# Altium integrated library Analog Devices Data Converters Analog-to-Digital Converters.IntLib: 2400 symbols (part 213 of 338)
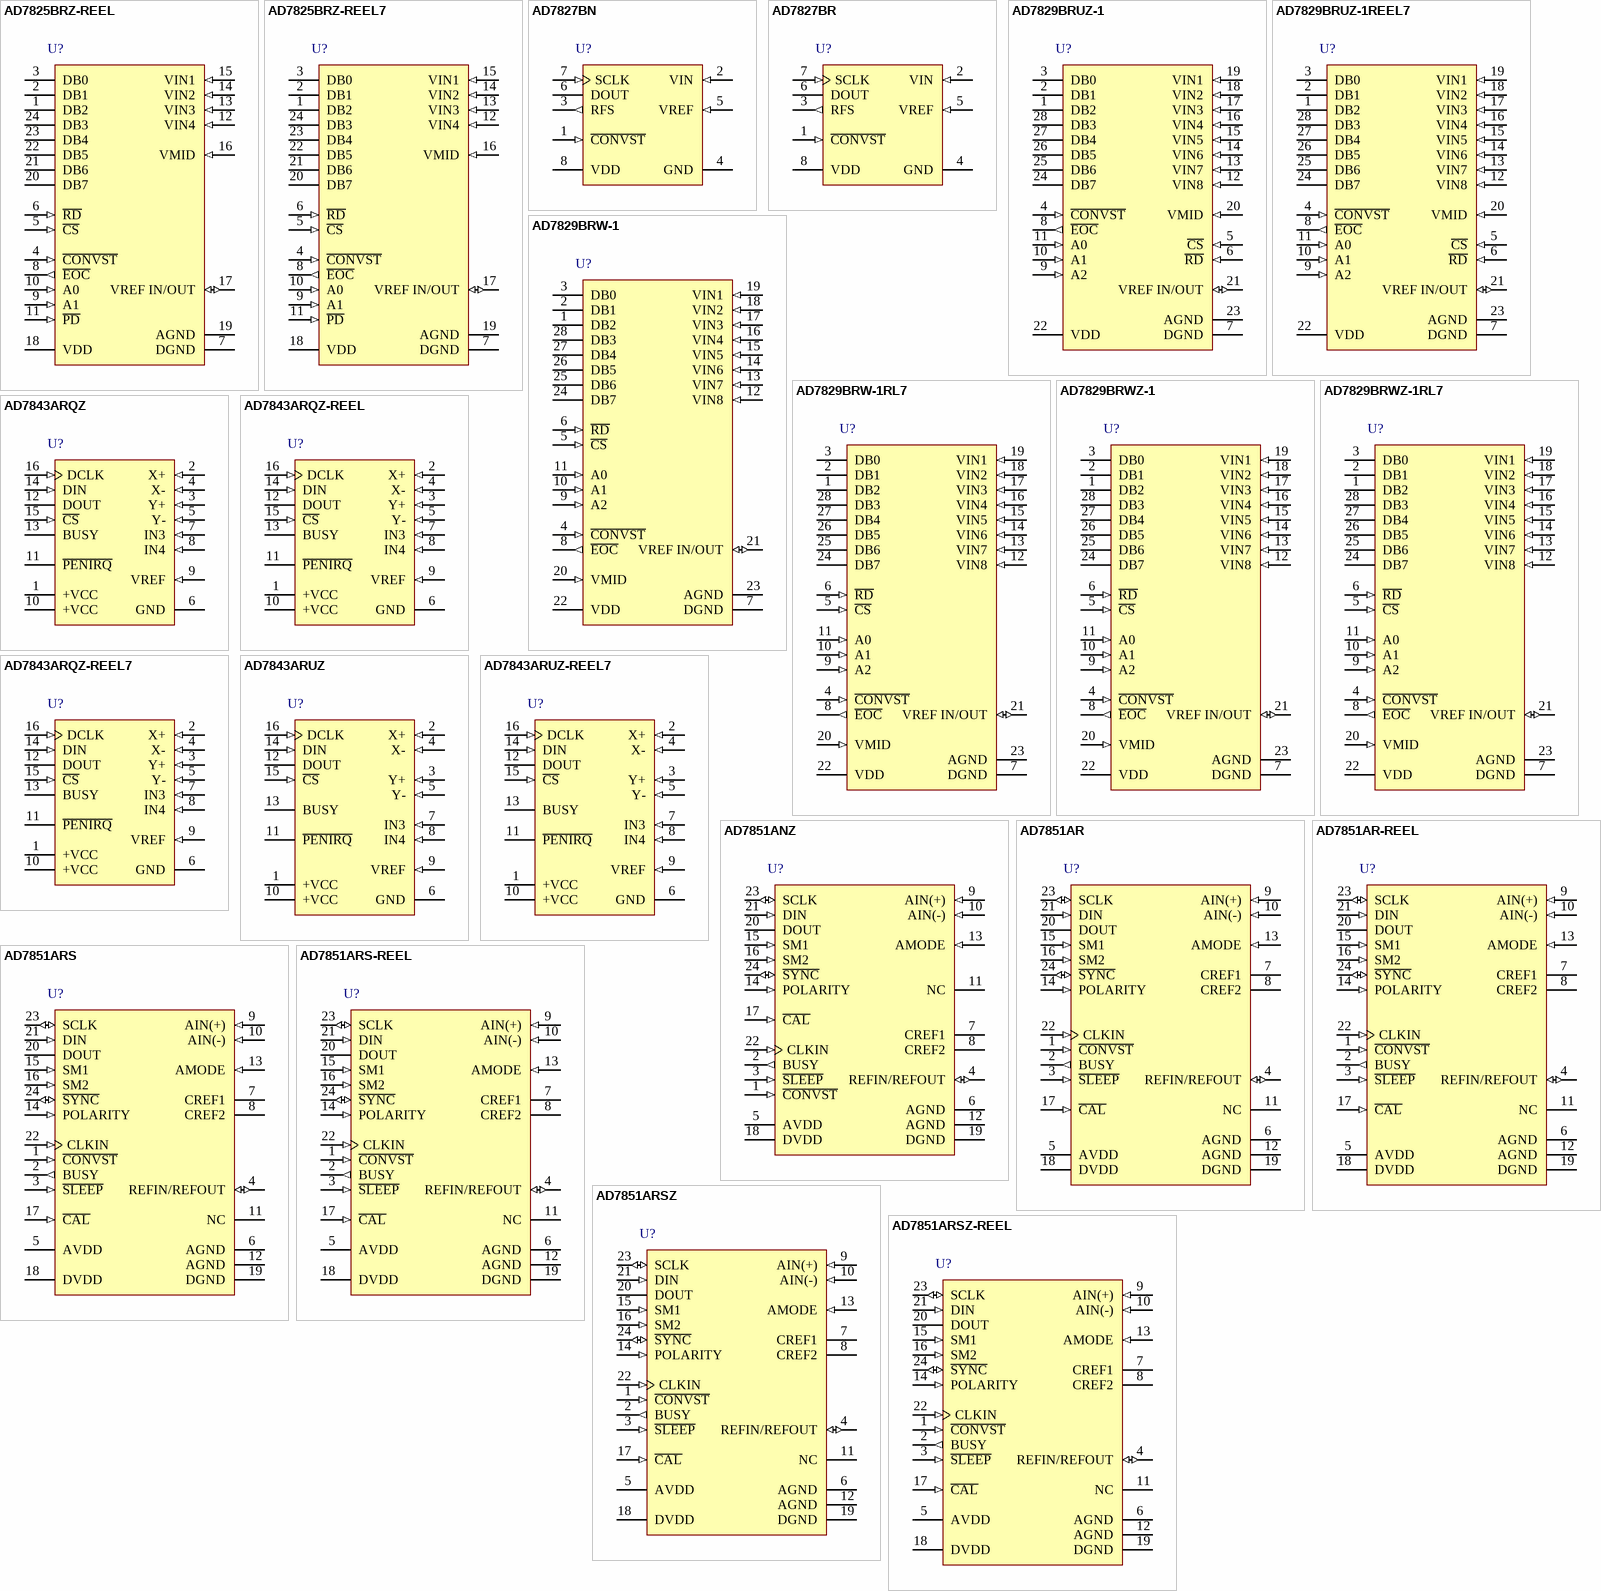
[diagram p272: symbols AD7825BRZ-REEL to AD7851ARSZ-REEL]

## AD7829BRUZ-1
designator U?
Octal 8-Bit Analog-to-Digital Converter with Parallel Interface,3 V, 2MSPS, -40 to +85 degC, RU-28, Pb-Free, Tube; Part Number: AD7829-1; Manufacturer: Analog Devices; Resolution (Bits): 8; Throughput Rate (SPS): 2M; Interface: Par; DatasheetVersion: Rev.0; PackageVersion: 2005; PackageReference: RU-28; PackageDescription: 28-Lead Thin Shrink Small Outline Package [TSSOP]; Channels: 8; RoHS: Y; Packing: Tube; Mounting Technology: Surface Mount; Code_JEDEC: MO-153-AE; ComponentLink1Description: Manufacturer URL; ComponentLink1URL: http://www.analog.com/en/index.html; ComponentLink2Description: Datasheet; ComponentLink2URL: http://www.analog.com/static/imported-files/data_sheets/AD7829-1.pdf; ComponentLink3Description: Package Specification; ComponentLink3URL: http://www.analog.com/static/imported-files/packages/249854663RU_28.pdf; ComponentLink4Description: Product URL; ComponentLink4URL: http://www.analog.com/en/analog-to-digital-converters/ad-converters/ad7829-1/products/product.html
footprint RU-28_N (TSOP, 28-Leads, Body 9.7x4.4mm, Pitch 0.65mm, IPC Medium Density)
footprint RU-28_L (TSOP, 28-Leads, Body 9.7x4.4mm, Pitch 0.65mm, IPC High Density)
footprint RU-28_M (TSOP, 28-Leads, Body 9.7x4.4mm, Pitch 0.65mm, IPC Low Density)
pins: 1 DB2 (hiz) "Data Output Lines. They are normally held in a high impedance state. Data is driven onto the data bus when both R\D\ and C\S\ go active low.", 2 DB1 (hiz) "Data Output Lines. They are normally held in a high impedance state. Data is driven onto the data bus when both R\D\ and C\S\ go active low.", 3 DB0 (hiz) "Data Output Lines. They are normally held in a high impedance state. Data is driven onto the data bus when both R\D\ and C\S\ go active low.", 4 ~{CONVST} (in) "Logic Input Signal. The convert start signal initiates an 8-bit analog-to-digital conversion on the falling edge  of this signal. The falling edge of this signal places the track/hold in hold mode. The track/hold goes into (See Datasheet)", 5 ~{CS} (in) "Logic Input Signal. The chip select signal is used to enable the parallel port of the AD7829. This is necessary if the ADC is sharing a common data bus with another device.", 6 ~{RD} (in) "Logic Input Signal. The read signal is used to take the output buffers out of their high impedance state and drive data onto the data bus. The signal is internally gated with the CS signal. Both R\D\ and C\S\ must be logic (See Datasheet)", 7 DGND (power) "Digital Ground. Ground reference for digital circuitry.", 8 ~{EOC} (out) "Logic Output. The end of conversion signal indicates when a conversion has finished. The signal can be used  to interrupt a microcontroller when a conversion has finished or latch data into a gate array (see the Parallel (See Datasheet)", 9 A2 (in) "Channel Address Inputs. The address of the next multiplexer channel must be present on these inputs when the R\D\ signal goes low.", 10 A1 (in) "Channel Address Inputs. The address of the next multiplexer channel must be present on these inputs when the R\D\ signal goes low.", 11 A0 (in) "Channel Address Inputs. The address of the next multiplexer channel must be present on these inputs when the R\D\ signal goes low.", 12 VIN8 (in) "Analog Input Channels. The AD7829-1 has eight analog input channels. The inputs have an input span of 2.5 V and 2 V, depending on the supply voltage (VDD). This span can be centered anywhere in the range AGND to VDD using (See Datasheet)", 13 VIN7 (in) "Analog Input Channels. The AD7829-1 has eight analog input channels. The inputs have an input span of 2.5 V and 2 V, depending on the supply voltage (VDD). This span can be centered anywhere in the range AGND to VDD using (See Datasheet)", 14 VIN6 (in) "Analog Input Channels. The AD7829-1 has eight analog input channels. The inputs have an input span of 2.5 V and 2 V, depending on the supply voltage (VDD). This span can be centered anywhere in the range AGND to VDD using (See Datasheet)", 15 VIN5 (in) "Analog Input Channels. The AD7829-1 has eight analog input channels. The inputs have an input span of 2.5 V and 2 V, depending on the supply voltage (VDD). This span can be centered anywhere in the range AGND to VDD using (See Datasheet)", 16 VIN4 (in) "Analog Input Channels. The AD7829-1 has eight analog input channels. The inputs have an input span of 2.5 V and 2 V, depending on the supply voltage (VDD). This span can be centered anywhere in the range AGND to VDD using (See Datasheet)", 17 VIN3 (in) "Analog Input Channels. The AD7829-1 has eight analog input channels. The inputs have an input span of 2.5 V and 2 V, depending on the supply voltage (VDD). This span can be centered anywhere in the range AGND to VDD using (See Datasheet)", 18 VIN2 (in) "Analog Input Channels. The AD7829-1 has eight analog input channels. The inputs have an input span of 2.5 V and 2 V, depending on the supply voltage (VDD). This span can be centered anywhere in the range AGND to VDD using (See Datasheet)", 19 VIN1 (in) "Analog Input Channels. The AD7829-1 has eight analog input channels. The inputs have an input span of 2.5 V and 2 V, depending on the supply voltage (VDD). This span can be centered anywhere in the range AGND to VDD using (See Datasheet)", 20 VMID (in) "The VMID pin, if connected, is used to center the analog input span anywhere in the range of AGND to VDD (see the Analog Input section).", 21 VREF IN/OUT (io) "Analog Input and Output. An external reference can be connected to the AD7829-1 at this pin. The on-chip reference is also available at this pin. When using the internal reference, this pin can be left unconnected or, in (See Datasheet)", 22 VDD (power) "Positive Supply Voltage, 3 V +/- 10% and 5 V +/- 10%.", 23 AGND (power) "Analog Ground. Ground reference for track/hold, comparators, reference circuit, and multiplexer.", 24 DB7 (hiz) "Data Output Lines. They are normally held in a high impedance state. Data is driven onto the data bus when both R\D\ and C\S\ go active low.", 25 DB6 (hiz) "Data Output Lines. They are normally held in a high impedance state. Data is driven onto the data bus when both R\D\ and C\S\ go active low.", 26 DB5 (hiz) "Data Output Lines. They are normally held in a high impedance state. Data is driven onto the data bus when both R\D\ and C\S\ go active low.", 27 DB4 (hiz) "Data Output Lines. They are normally held in a high impedance state. Data is driven onto the data bus when both R\D\ and C\S\ go active low.", 28 DB3 (hiz) "Data Output Lines. They are normally held in a high impedance state. Data is driven onto the data bus when both R\D\ and C\S\ go active low."

## AD7829BRUZ-1REEL7
designator U?
Octal 8-Bit Analog-to-Digital Converter with Parallel Interface,3 V, 2MSPS, -40 to +85 degC, RU-28, Pb-Free, Reel; Part Number: AD7829-1; Manufacturer: Analog Devices; Resolution (Bits): 8; Throughput Rate (SPS): 2M; Interface: Par; DatasheetVersion: Rev.0; PackageVersion: 2005; PackageReference: RU-28; PackageDescription: 28-Lead Thin Shrink Small Outline Package [TSSOP]; Channels: 8; RoHS: Y; Packing: Reel; Mounting Technology: Surface Mount; Code_JEDEC: MO-153-AE; ComponentLink1Description: Manufacturer URL; ComponentLink1URL: http://www.analog.com/en/index.html; ComponentLink2Description: Datasheet; ComponentLink2URL: http://www.analog.com/static/imported-files/data_sheets/AD7829-1.pdf; ComponentLink3Description: Package Specification; ComponentLink3URL: http://www.analog.com/static/imported-files/packages/249854663RU_28.pdf; ComponentLink4Description: Product URL; ComponentLink4URL: http://www.analog.com/en/analog-to-digital-converters/ad-converters/ad7829-1/products/product.html
footprint RU-28_N (TSOP, 28-Leads, Body 9.7x4.4mm, Pitch 0.65mm, IPC Medium Density)
footprint RU-28_L (TSOP, 28-Leads, Body 9.7x4.4mm, Pitch 0.65mm, IPC High Density)
footprint RU-28_M (TSOP, 28-Leads, Body 9.7x4.4mm, Pitch 0.65mm, IPC Low Density)
pins: 1 DB2 (hiz) "Data Output Lines. They are normally held in a high impedance state. Data is driven onto the data bus when both R\D\ and C\S\ go active low.", 2 DB1 (hiz) "Data Output Lines. They are normally held in a high impedance state. Data is driven onto the data bus when both R\D\ and C\S\ go active low.", 3 DB0 (hiz) "Data Output Lines. They are normally held in a high impedance state. Data is driven onto the data bus when both R\D\ and C\S\ go active low.", 4 ~{CONVST} (in) "Logic Input Signal. The convert start signal initiates an 8-bit analog-to-digital conversion on the falling edge  of this signal. The falling edge of this signal places the track/hold in hold mode. The track/hold goes into (See Datasheet)", 5 ~{CS} (in) "Logic Input Signal. The chip select signal is used to enable the parallel port of the AD7829. This is necessary if the ADC is sharing a common data bus with another device.", 6 ~{RD} (in) "Logic Input Signal. The read signal is used to take the output buffers out of their high impedance state and drive data onto the data bus. The signal is internally gated with the CS signal. Both R\D\ and C\S\ must be logic (See Datasheet)", 7 DGND (power) "Digital Ground. Ground reference for digital circuitry.", 8 ~{EOC} (out) "Logic Output. The end of conversion signal indicates when a conversion has finished. The signal can be used  to interrupt a microcontroller when a conversion has finished or latch data into a gate array (see the Parallel (See Datasheet)", 9 A2 (in) "Channel Address Inputs. The address of the next multiplexer channel must be present on these inputs when the R\D\ signal goes low.", 10 A1 (in) "Channel Address Inputs. The address of the next multiplexer channel must be present on these inputs when the R\D\ signal goes low.", 11 A0 (in) "Channel Address Inputs. The address of the next multiplexer channel must be present on these inputs when the R\D\ signal goes low.", 12 VIN8 (in) "Analog Input Channels. The AD7829-1 has eight analog input channels. The inputs have an input span of 2.5 V and 2 V, depending on the supply voltage (VDD). This span can be centered anywhere in the range AGND to VDD using (See Datasheet)", 13 VIN7 (in) "Analog Input Channels. The AD7829-1 has eight analog input channels. The inputs have an input span of 2.5 V and 2 V, depending on the supply voltage (VDD). This span can be centered anywhere in the range AGND to VDD using (See Datasheet)", 14 VIN6 (in) "Analog Input Channels. The AD7829-1 has eight analog input channels. The inputs have an input span of 2.5 V and 2 V, depending on the supply voltage (VDD). This span can be centered anywhere in the range AGND to VDD using (See Datasheet)", 15 VIN5 (in) "Analog Input Channels. The AD7829-1 has eight analog input channels. The inputs have an input span of 2.5 V and 2 V, depending on the supply voltage (VDD). This span can be centered anywhere in the range AGND to VDD using (See Datasheet)", 16 VIN4 (in) "Analog Input Channels. The AD7829-1 has eight analog input channels. The inputs have an input span of 2.5 V and 2 V, depending on the supply voltage (VDD). This span can be centered anywhere in the range AGND to VDD using (See Datasheet)", 17 VIN3 (in) "Analog Input Channels. The AD7829-1 has eight analog input channels. The inputs have an input span of 2.5 V and 2 V, depending on the supply voltage (VDD). This span can be centered anywhere in the range AGND to VDD using (See Datasheet)", 18 VIN2 (in) "Analog Input Channels. The AD7829-1 has eight analog input channels. The inputs have an input span of 2.5 V and 2 V, depending on the supply voltage (VDD). This span can be centered anywhere in the range AGND to VDD using (See Datasheet)", 19 VIN1 (in) "Analog Input Channels. The AD7829-1 has eight analog input channels. The inputs have an input span of 2.5 V and 2 V, depending on the supply voltage (VDD). This span can be centered anywhere in the range AGND to VDD using (See Datasheet)", 20 VMID (in) "The VMID pin, if connected, is used to center the analog input span anywhere in the range of AGND to VDD (see the Analog Input section).", 21 VREF IN/OUT (io) "Analog Input and Output. An external reference can be connected to the AD7829-1 at this pin. The on-chip reference is also available at this pin. When using the internal reference, this pin can be left unconnected or, in (See Datasheet)", 22 VDD (power) "Positive Supply Voltage, 3 V +/- 10% and 5 V +/- 10%.", 23 AGND (power) "Analog Ground. Ground reference for track/hold, comparators, reference circuit, and multiplexer.", 24 DB7 (hiz) "Data Output Lines. They are normally held in a high impedance state. Data is driven onto the data bus when both R\D\ and C\S\ go active low.", 25 DB6 (hiz) "Data Output Lines. They are normally held in a high impedance state. Data is driven onto the data bus when both R\D\ and C\S\ go active low.", 26 DB5 (hiz) "Data Output Lines. They are normally held in a high impedance state. Data is driven onto the data bus when both R\D\ and C\S\ go active low.", 27 DB4 (hiz) "Data Output Lines. They are normally held in a high impedance state. Data is driven onto the data bus when both R\D\ and C\S\ go active low.", 28 DB3 (hiz) "Data Output Lines. They are normally held in a high impedance state. Data is driven onto the data bus when both R\D\ and C\S\ go active low."

## AD7829BRW-1
designator U?
Octal 8-Bit Analog-to-Digital Converter with Parallel Interface,3 V, 2MSPS, -40 to +85 degC, RW-28, Tube; Part Number: AD7829-1; Manufacturer: Analog Devices; Resolution (Bits): 8; Throughput Rate (SPS): 2M; Interface: Par; DatasheetVersion: Rev.0; PackageVersion: 060706-A; PackageReference: RW-28; PackageDescription: 28-Lead Standard Small Outline Package [SOIC_W]; Channels: 8; RoHS: N; Packing: Tube; Mounting Technology: Surface Mount; Code_JEDEC: MS-013-AE; ComponentLink1Description: Manufacturer URL; ComponentLink1URL: http://www.analog.com/en/index.html; ComponentLink2Description: Datasheet; ComponentLink2URL: http://www.analog.com/static/imported-files/data_sheets/AD7829-1.pdf; ComponentLink3Description: Package Specification; ComponentLink3URL: http://www.analog.com/static/imported-files/packages/35833120341221RW_28.pdf; ComponentLink4Description: Product URL; ComponentLink4URL: http://www.analog.com/en/analog-to-digital-converters/ad-converters/ad7829-1/products/product.html
footprint RW-28_N (SOIC, 28-Leads, Body 17.9x7.5mm, Pitch 1.27mm, IPC Medium Density)
footprint RW-28_L (SOIC, 28-Leads, Body 17.9x7.5mm, Pitch 1.27mm, IPC High Density)
footprint RW-28_M (SOIC, 28-Leads, Body 17.9x7.5mm, Pitch 1.27mm, IPC Low Density)
pins: 1 DB2 (hiz) "Data Output Lines. They are normally held in a high impedance state. Data is driven onto the data bus when both R\D\ and C\S\ go active low.", 2 DB1 (hiz) "Data Output Lines. They are normally held in a high impedance state. Data is driven onto the data bus when both R\D\ and C\S\ go active low.", 3 DB0 (hiz) "Data Output Lines. They are normally held in a high impedance state. Data is driven onto the data bus when both R\D\ and C\S\ go active low.", 4 ~{CONVST} (in) "Logic Input Signal. The convert start signal initiates an 8-bit analog-to-digital conversion on the falling edge of this signal. The falling edge of this signal places the track/hold in hold mode. The track/hold goes into (See Datasheet)", 5 ~{CS} (in) "Logic Input Signal. The chip select signal is used to enable the parallel port of the AD7829. This is necessary if the ADC is sharing a common data bus with another device.", 6 ~{RD} (in) "Logic Input Signal. The read signal is used to take the output buffers out of their high impedance state and drive data onto the data bus. The signal is internally gated with the CS signal. Both R\D\ and C\S\ must be logic (See Datasheet)", 7 DGND (power) "Digital Ground. Ground reference for digital circuitry.", 8 ~{EOC} (out) "Logic Output. The end of conversion signal indicates when a conversion has finished. The signal can be used to interrupt a microcontroller when a conversion has finished or latch data into a gate array (see the Parallel (See Datasheet)", 9 A2 (in) "Channel Address Inputs. The address of the next multiplexer channel must be present on these inputs when the R\D\ signal goes low.", 10 A1 (in) "Channel Address Inputs. The address of the next multiplexer channel must be present on these inputs when the R\D\ signal goes low.", 11 A0 (in) "Channel Address Inputs. The address of the next multiplexer channel must be present on these inputs when the R\D\ signal goes low.", 12 VIN8 (in) "Analog Input Channels. The AD7829-1 has eight analog input channels. The inputs have an input span of 2.5 V and 2 V, depending on the supply voltage (VDD). This span can be centered anywhere in the range AGND to VDD using (See Datasheet)", 13 VIN7 (in) "Analog Input Channels. The AD7829-1 has eight analog input channels. The inputs have an input span of 2.5 V and 2 V, depending on the supply voltage (VDD). This span can be centered anywhere in the range AGND to VDD using (See Datasheet)", 14 VIN6 (in) "Analog Input Channels. The AD7829-1 has eight analog input channels. The inputs have an input span of 2.5 V and 2 V, depending on the supply voltage (VDD). This span can be centered anywhere in the range AGND to VDD using (See Datasheet)", 15 VIN5 (in) "Analog Input Channels. The AD7829-1 has eight analog input channels. The inputs have an input span of 2.5 V and 2 V, depending on the supply voltage (VDD). This span can be centered anywhere in the range AGND to VDD using (See Datasheet)", 16 VIN4 (in) "Analog Input Channels. The AD7829-1 has eight analog input channels. The inputs have an input span of 2.5 V and 2 V, depending on the supply voltage (VDD). This span can be centered anywhere in the range AGND to VDD using (See Datasheet)", 17 VIN3 (in) "Analog Input Channels. The AD7829-1 has eight analog input channels. The inputs have an input span of 2.5 V and 2 V, depending on the supply voltage (VDD). This span can be centered anywhere in the range AGND to VDD using (See Datasheet)", 18 VIN2 (in) "Analog Input Channels. The AD7829-1 has eight analog input channels. The inputs have an input span of 2.5 V and 2 V, depending on the supply voltage (VDD). This span can be centered anywhere in the range AGND to VDD using (See Datasheet)", 19 VIN1 (in) "Analog Input Channels. The AD7829-1 has eight analog input channels. The inputs have an input span of 2.5 V and 2 V, depending on the supply voltage (VDD). This span can be centered anywhere in the range AGND to VDD using (See Datasheet)", 20 VMID (in) "The VMID pin, if connected, is used to center the analog input span anywhere in the range of AGND to VDD (see the Analog Input section).", 21 VREF IN/OUT (io) "Analog Input and Output. An external reference can be connected to the AD7829-1 at this pin. The on-chip reference is also available at this pin. When using the internal reference, this pin can be left unconnected or, in (See Datasheet)", 22 VDD (power) "Positive Supply Voltage, 3 V +/- 10% and 5 V +/- 10%.", 23 AGND (power) "Analog Ground. Ground reference for track/hold, comparators, reference circuit, and multiplexer.", 24 DB7 (hiz) "Data Output Lines. They are normally held in a high impedance state. Data is driven onto the data bus when both R\D\ and C\S\ go active low.", 25 DB6 (hiz) "Data Output Lines. They are normally held in a high impedance state. Data is driven onto the data bus when both R\D\ and C\S\ go active low.", 26 DB5 (hiz) "Data Output Lines. They are normally held in a high impedance state. Data is driven onto the data bus when both R\D\ and C\S\ go active low.", 27 DB4 (hiz) "Data Output Lines. They are normally held in a high impedance state. Data is driven onto the data bus when both R\D\ and C\S\ go active low.", 28 DB3 (hiz) "Data Output Lines. They are normally held in a high impedance state. Data is driven onto the data bus when both R\D\ and C\S\ go active low."

## AD7829BRW-1RL7
designator U?
Octal 8-Bit Analog-to-Digital Converter with Parallel Interface,3 V, 2MSPS, -40 to +85 degC, RW-28,Reel; Part Number: AD7829-1; Manufacturer: Analog Devices; Resolution (Bits): 8; Throughput Rate (SPS): 2M; Interface: Par; DatasheetVersion: Rev.0; PackageVersion: 060706-A; PackageReference: RW-28; PackageDescription: 28-Lead Standard Small Outline Package [SOIC_W]; Channels: 8; RoHS: N; Packing: Reel; Mounting Technology: Surface Mount; Code_JEDEC: MS-013-AE; ComponentLink1Description: Manufacturer URL; ComponentLink1URL: http://www.analog.com/en/index.html; ComponentLink2Description: Datasheet; ComponentLink2URL: http://www.analog.com/static/imported-files/data_sheets/AD7829-1.pdf; ComponentLink3Description: Package Specification; ComponentLink3URL: http://www.analog.com/static/imported-files/packages/35833120341221RW_28.pdf; ComponentLink4Description: Product URL; ComponentLink4URL: http://www.analog.com/en/analog-to-digital-converters/ad-converters/ad7829-1/products/product.html
footprint RW-28_N (SOIC, 28-Leads, Body 17.9x7.5mm, Pitch 1.27mm, IPC Medium Density)
footprint RW-28_L (SOIC, 28-Leads, Body 17.9x7.5mm, Pitch 1.27mm, IPC High Density)
footprint RW-28_M (SOIC, 28-Leads, Body 17.9x7.5mm, Pitch 1.27mm, IPC Low Density)
pins: 1 DB2 (hiz) "Data Output Lines. They are normally held in a high impedance state. Data is driven onto the data bus when both R\D\ and C\S\ go active low.", 2 DB1 (hiz) "Data Output Lines. They are normally held in a high impedance state. Data is driven onto the data bus when both R\D\ and C\S\ go active low.", 3 DB0 (hiz) "Data Output Lines. They are normally held in a high impedance state. Data is driven onto the data bus when both R\D\ and C\S\ go active low.", 4 ~{CONVST} (in) "Logic Input Signal. The convert start signal initiates an 8-bit analog-to-digital conversion on the falling edge of this signal. The falling edge of this signal places the track/hold in hold mode. The track/hold goes into (See Datasheet)", 5 ~{CS} (in) "Logic Input Signal. The chip select signal is used to enable the parallel port of the AD7829. This is necessary if the ADC is sharing a common data bus with another device.", 6 ~{RD} (in) "Logic Input Signal. The read signal is used to take the output buffers out of their high impedance state and drive data onto the data bus. The signal is internally gated with the CS signal. Both R\D\ and C\S\ must be logic (See Datasheet)", 7 DGND (power) "Digital Ground. Ground reference for digital circuitry.", 8 ~{EOC} (out) "Logic Output. The end of conversion signal indicates when a conversion has finished. The signal can be used to interrupt a microcontroller when a conversion has finished or latch data into a gate array (see the Parallel (See Datasheet)", 9 A2 (in) "Channel Address Inputs. The address of the next multiplexer channel must be present on these inputs when the R\D\ signal goes low.", 10 A1 (in) "Channel Address Inputs. The address of the next multiplexer channel must be present on these inputs when the R\D\ signal goes low.", 11 A0 (in) "Channel Address Inputs. The address of the next multiplexer channel must be present on these inputs when the R\D\ signal goes low.", 12 VIN8 (in) "Analog Input Channels. The AD7829-1 has eight analog input channels. The inputs have an input span of 2.5 V and 2 V, depending on the supply voltage (VDD). This span can be centered anywhere in the range AGND to VDD using (See Datasheet)", 13 VIN7 (in) "Analog Input Channels. The AD7829-1 has eight analog input channels. The inputs have an input span of 2.5 V and 2 V, depending on the supply voltage (VDD). This span can be centered anywhere in the range AGND to VDD using (See Datasheet)", 14 VIN6 (in) "Analog Input Channels. The AD7829-1 has eight analog input channels. The inputs have an input span of 2.5 V and 2 V, depending on the supply voltage (VDD). This span can be centered anywhere in the range AGND to VDD using (See Datasheet)", 15 VIN5 (in) "Analog Input Channels. The AD7829-1 has eight analog input channels. The inputs have an input span of 2.5 V and 2 V, depending on the supply voltage (VDD). This span can be centered anywhere in the range AGND to VDD using (See Datasheet)", 16 VIN4 (in) "Analog Input Channels. The AD7829-1 has eight analog input channels. The inputs have an input span of 2.5 V and 2 V, depending on the supply voltage (VDD). This span can be centered anywhere in the range AGND to VDD using (See Datasheet)", 17 VIN3 (in) "Analog Input Channels. The AD7829-1 has eight analog input channels. The inputs have an input span of 2.5 V and 2 V, depending on the supply voltage (VDD). This span can be centered anywhere in the range AGND to VDD using (See Datasheet)", 18 VIN2 (in) "Analog Input Channels. The AD7829-1 has eight analog input channels. The inputs have an input span of 2.5 V and 2 V, depending on the supply voltage (VDD). This span can be centered anywhere in the range AGND to VDD using (See Datasheet)", 19 VIN1 (in) "Analog Input Channels. The AD7829-1 has eight analog input channels. The inputs have an input span of 2.5 V and 2 V, depending on the supply voltage (VDD). This span can be centered anywhere in the range AGND to VDD using (See Datasheet)", 20 VMID (in) "The VMID pin, if connected, is used to center the analog input span anywhere in the range of AGND to VDD (see the Analog Input section).", 21 VREF IN/OUT (io) "Analog Input and Output. An external reference can be connected to the AD7829-1 at this pin. The on-chip reference is also available at this pin. When using the internal reference, this pin can be left unconnected or, in (See Datasheet)", 22 VDD (power) "Positive Supply Voltage, 3 V +/- 10% and 5 V +/- 10%.", 23 AGND (power) "Analog Ground. Ground reference for track/hold, comparators, reference circuit, and multiplexer.", 24 DB7 (hiz) "Data Output Lines. They are normally held in a high impedance state. Data is driven onto the data bus when both R\D\ and C\S\ go active low.", 25 DB6 (hiz) "Data Output Lines. They are normally held in a high impedance state. Data is driven onto the data bus when both R\D\ and C\S\ go active low.", 26 DB5 (hiz) "Data Output Lines. They are normally held in a high impedance state. Data is driven onto the data bus when both R\D\ and C\S\ go active low.", 27 DB4 (hiz) "Data Output Lines. They are normally held in a high impedance state. Data is driven onto the data bus when both R\D\ and C\S\ go active low.", 28 DB3 (hiz) "Data Output Lines. They are normally held in a high impedance state. Data is driven onto the data bus when both R\D\ and C\S\ go active low."

## AD7829BRWZ-1
designator U?
Octal 8-Bit Analog-to-Digital Converter with Parallel Interface,3 V, 2MSPS, -40 to +85 degC, RW-28, Pb-Free, Tube; Part Number: AD7829-1; Manufacturer: Analog Devices; Resolution (Bits): 8; Throughput Rate (SPS): 2M; Interface: Par; DatasheetVersion: Rev.0; PackageVersion: 060706-A; PackageReference: RW-28; PackageDescription: 28-Lead Standard Small Outline Package [SOIC_W]; Channels: 8; RoHS: Y; Packing: Tube; Mounting Technology: Surface Mount; Code_JEDEC: MS-013-AE; ComponentLink1Description: Manufacturer URL; ComponentLink1URL: http://www.analog.com/en/index.html; ComponentLink2Description: Datasheet; ComponentLink2URL: http://www.analog.com/static/imported-files/data_sheets/AD7829-1.pdf; ComponentLink3Description: Package Specification; ComponentLink3URL: http://www.analog.com/static/imported-files/packages/35833120341221RW_28.pdf; ComponentLink4Description: Product URL; ComponentLink4URL: http://www.analog.com/en/analog-to-digital-converters/ad-converters/ad7829-1/products/product.html
footprint RW-28_N (SOIC, 28-Leads, Body 17.9x7.5mm, Pitch 1.27mm, IPC Medium Density)
footprint RW-28_L (SOIC, 28-Leads, Body 17.9x7.5mm, Pitch 1.27mm, IPC High Density)
footprint RW-28_M (SOIC, 28-Leads, Body 17.9x7.5mm, Pitch 1.27mm, IPC Low Density)
pins: 1 DB2 (hiz) "Data Output Lines. They are normally held in a high impedance state. Data is driven onto the data bus when both R\D\ and C\S\ go active low.", 2 DB1 (hiz) "Data Output Lines. They are normally held in a high impedance state. Data is driven onto the data bus when both R\D\ and C\S\ go active low.", 3 DB0 (hiz) "Data Output Lines. They are normally held in a high impedance state. Data is driven onto the data bus when both R\D\ and C\S\ go active low.", 4 ~{CONVST} (in) "Logic Input Signal. The convert start signal initiates an 8-bit analog-to-digital conversion on the falling edge of this signal. The falling edge of this signal places the track/hold in hold mode. The track/hold goes into (See Datasheet)", 5 ~{CS} (in) "Logic Input Signal. The chip select signal is used to enable the parallel port of the AD7829. This is necessary if the ADC is sharing a common data bus with another device.", 6 ~{RD} (in) "Logic Input Signal. The read signal is used to take the output buffers out of their high impedance state and drive data onto the data bus. The signal is internally gated with the CS signal. Both R\D\ and C\S\ must be logic (See Datasheet)", 7 DGND (power) "Digital Ground. Ground reference for digital circuitry.", 8 ~{EOC} (out) "Logic Output. The end of conversion signal indicates when a conversion has finished. The signal can be used to interrupt a microcontroller when a conversion has finished or latch data into a gate array (see the Parallel (See Datasheet)", 9 A2 (in) "Channel Address Inputs. The address of the next multiplexer channel must be present on these inputs when the R\D\ signal goes low.", 10 A1 (in) "Channel Address Inputs. The address of the next multiplexer channel must be present on these inputs when the R\D\ signal goes low.", 11 A0 (in) "Channel Address Inputs. The address of the next multiplexer channel must be present on these inputs when the R\D\ signal goes low.", 12 VIN8 (in) "Analog Input Channels. The AD7829-1 has eight analog input channels. The inputs have an input span of 2.5 V and 2 V, depending on the supply voltage (VDD). This span can be centered anywhere in the range AGND to VDD using (See Datasheet)", 13 VIN7 (in) "Analog Input Channels. The AD7829-1 has eight analog input channels. The inputs have an input span of 2.5 V and 2 V, depending on the supply voltage (VDD). This span can be centered anywhere in the range AGND to VDD using (See Datasheet)", 14 VIN6 (in) "Analog Input Channels. The AD7829-1 has eight analog input channels. The inputs have an input span of 2.5 V and 2 V, depending on the supply voltage (VDD). This span can be centered anywhere in the range AGND to VDD using (See Datasheet)", 15 VIN5 (in) "Analog Input Channels. The AD7829-1 has eight analog input channels. The inputs have an input span of 2.5 V and 2 V, depending on the supply voltage (VDD). This span can be centered anywhere in the range AGND to VDD using (See Datasheet)", 16 VIN4 (in) "Analog Input Channels. The AD7829-1 has eight analog input channels. The inputs have an input span of 2.5 V and 2 V, depending on the supply voltage (VDD). This span can be centered anywhere in the range AGND to VDD using (See Datasheet)", 17 VIN3 (in) "Analog Input Channels. The AD7829-1 has eight analog input channels. The inputs have an input span of 2.5 V and 2 V, depending on the supply voltage (VDD). This span can be centered anywhere in the range AGND to VDD using (See Datasheet)", 18 VIN2 (in) "Analog Input Channels. The AD7829-1 has eight analog input channels. The inputs have an input span of 2.5 V and 2 V, depending on the supply voltage (VDD). This span can be centered anywhere in the range AGND to VDD using (See Datasheet)", 19 VIN1 (in) "Analog Input Channels. The AD7829-1 has eight analog input channels. The inputs have an input span of 2.5 V and 2 V, depending on the supply voltage (VDD). This span can be centered anywhere in the range AGND to VDD using (See Datasheet)", 20 VMID (in) "The VMID pin, if connected, is used to center the analog input span anywhere in the range of AGND to VDD (see the Analog Input section).", 21 VREF IN/OUT (io) "Analog Input and Output. An external reference can be connected to the AD7829-1 at this pin. The on-chip reference is also available at this pin. When using the internal reference, this pin can be left unconnected or, in (See Datasheet)", 22 VDD (power) "Positive Supply Voltage, 3 V +/- 10% and 5 V +/- 10%.", 23 AGND (power) "Analog Ground. Ground reference for track/hold, comparators, reference circuit, and multiplexer.", 24 DB7 (hiz) "Data Output Lines. They are normally held in a high impedance state. Data is driven onto the data bus when both R\D\ and C\S\ go active low.", 25 DB6 (hiz) "Data Output Lines. They are normally held in a high impedance state. Data is driven onto the data bus when both R\D\ and C\S\ go active low.", 26 DB5 (hiz) "Data Output Lines. They are normally held in a high impedance state. Data is driven onto the data bus when both R\D\ and C\S\ go active low.", 27 DB4 (hiz) "Data Output Lines. They are normally held in a high impedance state. Data is driven onto the data bus when both R\D\ and C\S\ go active low.", 28 DB3 (hiz) "Data Output Lines. They are normally held in a high impedance state. Data is driven onto the data bus when both R\D\ and C\S\ go active low."

## AD7829BRWZ-1RL7
designator U?
Octal 8-Bit Analog-to-Digital Converter with Parallel Interface,3 V, 2MSPS, -40 to +85 degC, RW-28, Pb-Free, Reel; Part Number: AD7829-1; Manufacturer: Analog Devices; Resolution (Bits): 8; Throughput Rate (SPS): 2M; Interface: Par; DatasheetVersion: Rev.0; PackageVersion: 060706-A; PackageReference: RW-28; PackageDescription: 28-Lead Standard Small Outline Package [SOIC_W]; Channels: 8; RoHS: Y; Packing: Reel; Mounting Technology: Surface Mount; Code_JEDEC: MS-013-AE; ComponentLink1Description: Manufacturer URL; ComponentLink1URL: http://www.analog.com/en/index.html; ComponentLink2Description: Datasheet; ComponentLink2URL: http://www.analog.com/static/imported-files/data_sheets/AD7829-1.pdf; ComponentLink3Description: Package Specification; ComponentLink3URL: http://www.analog.com/static/imported-files/packages/35833120341221RW_28.pdf; ComponentLink4Description: Product URL; ComponentLink4URL: http://www.analog.com/en/analog-to-digital-converters/ad-converters/ad7829-1/products/product.html
footprint RW-28_N (SOIC, 28-Leads, Body 17.9x7.5mm, Pitch 1.27mm, IPC Medium Density)
footprint RW-28_L (SOIC, 28-Leads, Body 17.9x7.5mm, Pitch 1.27mm, IPC High Density)
footprint RW-28_M (SOIC, 28-Leads, Body 17.9x7.5mm, Pitch 1.27mm, IPC Low Density)
pins: 1 DB2 (hiz) "Data Output Lines. They are normally held in a high impedance state. Data is driven onto the data bus when both R\D\ and C\S\ go active low.", 2 DB1 (hiz) "Data Output Lines. They are normally held in a high impedance state. Data is driven onto the data bus when both R\D\ and C\S\ go active low.", 3 DB0 (hiz) "Data Output Lines. They are normally held in a high impedance state. Data is driven onto the data bus when both R\D\ and C\S\ go active low.", 4 ~{CONVST} (in) "Logic Input Signal. The convert start signal initiates an 8-bit analog-to-digital conversion on the falling edge of this signal. The falling edge of this signal places the track/hold in hold mode. The track/hold goes into (See Datasheet)", 5 ~{CS} (in) "Logic Input Signal. The chip select signal is used to enable the parallel port of the AD7829. This is necessary if the ADC is sharing a common data bus with another device.", 6 ~{RD} (in) "Logic Input Signal. The read signal is used to take the output buffers out of their high impedance state and drive data onto the data bus. The signal is internally gated with the CS signal. Both R\D\ and C\S\ must be logic (See Datasheet)", 7 DGND (power) "Digital Ground. Ground reference for digital circuitry.", 8 ~{EOC} (out) "Logic Output. The end of conversion signal indicates when a conversion has finished. The signal can be used to interrupt a microcontroller when a conversion has finished or latch data into a gate array (see the Parallel (See Datasheet)", 9 A2 (in) "Channel Address Inputs. The address of the next multiplexer channel must be present on these inputs when the R\D\ signal goes low.", 10 A1 (in) "Channel Address Inputs. The address of the next multiplexer channel must be present on these inputs when the R\D\ signal goes low.", 11 A0 (in) "Channel Address Inputs. The address of the next multiplexer channel must be present on these inputs when the R\D\ signal goes low.", 12 VIN8 (in) "Analog Input Channels. The AD7829-1 has eight analog input channels. The inputs have an input span of 2.5 V and 2 V, depending on the supply voltage (VDD). This span can be centered anywhere in the range AGND to VDD using (See Datasheet)", 13 VIN7 (in) "Analog Input Channels. The AD7829-1 has eight analog input channels. The inputs have an input span of 2.5 V and 2 V, depending on the supply voltage (VDD). This span can be centered anywhere in the range AGND to VDD using (See Datasheet)", 14 VIN6 (in) "Analog Input Channels. The AD7829-1 has eight analog input channels. The inputs have an input span of 2.5 V and 2 V, depending on the supply voltage (VDD). This span can be centered anywhere in the range AGND to VDD using (See Datasheet)", 15 VIN5 (in) "Analog Input Channels. The AD7829-1 has eight analog input channels. The inputs have an input span of 2.5 V and 2 V, depending on the supply voltage (VDD). This span can be centered anywhere in the range AGND to VDD using (See Datasheet)", 16 VIN4 (in) "Analog Input Channels. The AD7829-1 has eight analog input channels. The inputs have an input span of 2.5 V and 2 V, depending on the supply voltage (VDD). This span can be centered anywhere in the range AGND to VDD using (See Datasheet)", 17 VIN3 (in) "Analog Input Channels. The AD7829-1 has eight analog input channels. The inputs have an input span of 2.5 V and 2 V, depending on the supply voltage (VDD). This span can be centered anywhere in the range AGND to VDD using (See Datasheet)", 18 VIN2 (in) "Analog Input Channels. The AD7829-1 has eight analog input channels. The inputs have an input span of 2.5 V and 2 V, depending on the supply voltage (VDD). This span can be centered anywhere in the range AGND to VDD using (See Datasheet)", 19 VIN1 (in) "Analog Input Channels. The AD7829-1 has eight analog input channels. The inputs have an input span of 2.5 V and 2 V, depending on the supply voltage (VDD). This span can be centered anywhere in the range AGND to VDD using (See Datasheet)", 20 VMID (in) "The VMID pin, if connected, is used to center the analog input span anywhere in the range of AGND to VDD (see the Analog Input section).", 21 VREF IN/OUT (io) "Analog Input and Output. An external reference can be connected to the AD7829-1 at this pin. The on-chip reference is also available at this pin. When using the internal reference, this pin can be left unconnected or, in (See Datasheet)", 22 VDD (power) "Positive Supply Voltage, 3 V +/- 10% and 5 V +/- 10%.", 23 AGND (power) "Analog Ground. Ground reference for track/hold, comparators, reference circuit, and multiplexer.", 24 DB7 (hiz) "Data Output Lines. They are normally held in a high impedance state. Data is driven onto the data bus when both R\D\ and C\S\ go active low.", 25 DB6 (hiz) "Data Output Lines. They are normally held in a high impedance state. Data is driven onto the data bus when both R\D\ and C\S\ go active low.", 26 DB5 (hiz) "Data Output Lines. They are normally held in a high impedance state. Data is driven onto the data bus when both R\D\ and C\S\ go active low.", 27 DB4 (hiz) "Data Output Lines. They are normally held in a high impedance state. Data is driven onto the data bus when both R\D\ and C\S\ go active low.", 28 DB3 (hiz) "Data Output Lines. They are normally held in a high impedance state. Data is driven onto the data bus when both R\D\ and C\S\ go active low."

## AD7843ARQZ
designator U?
4 Channel 12-Bit Touch Screen Digitizer with Serial Interface, 125KSPS, 0 to +70 degC, RQ-16, Pb-Free, Tube; Part Number: AD7843; Manufacturer: Analog Devices; Resolution (Bits): 12; Channels: 4; Throughput Rate (SPS): 125K; Interface: Ser; DatasheetVersion: Rev.B; PackageVersion: Aug-2005; PackageReference: RQ-16; PackageDescription: 16-Lead Shrink Small Outline Package [QSOP]; RoHS: Y; Packing: Tube; Mounting Technology: Surface Mount; Code_JEDEC: MO-137-AB; ComponentLink1Description: Manufacturer URL; ComponentLink1URL: http://www.analog.com/en/index.html; ComponentLink2Description: Datasheet; ComponentLink2URL: http://www.analog.com/static/imported-files/data_sheets/AD7843.pdf; ComponentLink3Description: Package Specification; ComponentLink3URL: http://www.analog.com/static/imported-files/packages/5595549651201762937RQ_16.pdf; ComponentLink4Description: Product URL; ComponentLink4URL: http://www.analog.com/en/analog-to-digital-converters/ad-converters/ad7843/products/product.html
footprint RQ-16_N (SOP, 16-Leads, Body 4.9x3.9mm, Pitch 0.635mm, IPC Medium Density)
footprint RQ-16_L (SOP, 16-Leads, Body 4.9x3.9mm, Pitch 0.635mm, IPC High Density)
footprint RQ-16_M (SOP, 16-Leads, Body 4.9x3.9mm, Pitch 0.635mm, IPC Low Density)
pins: 1 +VCC (power) "Power Supply Input. The +VCC range for the AD7843 is from 2.2 V to 5.25 V. Both +VCC pins should be connected directly together.", 2 X+ (in) "X+ Position Input. ADC Input Channel 1.", 3 Y+ (in) "Y+ Position Input. ADC Input Channel 2.", 4 X- (in) "X- Position Input.", 5 Y- (in) "Y- Position Input.", 6 GND (power) "Analog Ground. Ground reference point for all circuitry on the AD7843. All analog input signals and any external reference signal should be referred to this GND voltage.", 7 IN3 (in) "Auxiliary Input 1. ADC Input Channel 3.", 8 IN4 (in) "Auxiliary Input 2. ADC Input Channel 4.", 9 VREF (in) "Reference Input for the AD7843. An external reference must be applied to this input. The voltage range for the external reference is 1.0 V to +VCC. For specified performance, it is 2.5 V.", 10 +VCC (power) "Power Supply Input. The +VCC range for the AD7843 is from 2.2 V to 5.25 V. Both +VCC pins should be connected directly together.", 11 ~{PENIRQ} (oc) "Pen Interrupt. CMOS logic open-drain output (requires 10 kohm to 100 kohm pull-up register externally).", 12 DOUT (hiz) "Data Out. Logic Output. The conversion result from the AD7843 is provided on this output as a serial data stream.The bits are clocked out on the falling edge of the DCLK input. This output is high impedance when C\S\ is high.", 13 BUSY (hiz) "BUSY Output. Logic Output. This output is high impedance when C\S\ is high.", 14 DIN (in) "Data In. Logic input. Data to be written to the AD7843 control register is provided on this input and is clocked into the register on the rising edge of DCLK (see the Control Register section).", 15 ~{CS} (in) "Chip Select Input. Active Low Logic Input. This input provides the dual function of initiating conversions on the AD7843 and also enables the serial input/output register.", 16 DCLK (in) "External Clock Input. Logic Input. DCLK provides the serial clock for accessing data from the part. This clock input is also used as the clock source for the AD7843 conversion process."

## AD7843ARQZ-REEL
designator U?
4 Channel Touch Screen Digitizer with Serial Interface, 125KSPS, 0 to +70 degC, RQ-16, Pb-Free, Reel; Part Number: AD7843; Manufacturer: Analog Devices; Resolution (Bits): 12; Channels: 4; Throughput Rate (SPS): 125K; Interface: Ser; DatasheetVersion: Rev.B; PackageVersion: Aug-2005; PackageReference: RQ-16; PackageDescription: 16-Lead Shrink Small Outline Package [QSOP]; RoHS: Y; Packing: Reel; Mounting Technology: Surface Mount; Code_JEDEC: MO-137-AB; ComponentLink1Description: Manufacturer URL; ComponentLink1URL: http://www.analog.com/en/index.html; ComponentLink2Description: Datasheet; ComponentLink2URL: http://www.analog.com/static/imported-files/data_sheets/AD7843.pdf; ComponentLink3Description: Package Specification; ComponentLink3URL: http://www.analog.com/static/imported-files/packages/5595549651201762937RQ_16.pdf; ComponentLink4Description: Product URL; ComponentLink4URL: http://www.analog.com/en/analog-to-digital-converters/ad-converters/ad7843/products/product.html
footprint RQ-16_N (SOP, 16-Leads, Body 4.9x3.9mm, Pitch 0.635mm, IPC Medium Density)
footprint RQ-16_L (SOP, 16-Leads, Body 4.9x3.9mm, Pitch 0.635mm, IPC High Density)
footprint RQ-16_M (SOP, 16-Leads, Body 4.9x3.9mm, Pitch 0.635mm, IPC Low Density)
pins: 1 +VCC (power) "Power Supply Input. The +VCC range for the AD7843 is from 2.2 V to 5.25 V. Both +VCC pins should be connected directly together.", 2 X+ (in) "X+ Position Input. ADC Input Channel 1.", 3 Y+ (in) "Y+ Position Input. ADC Input Channel 2.", 4 X- (in) "X- Position Input.", 5 Y- (in) "Y- Position Input.", 6 GND (power) "Analog Ground. Ground reference point for all circuitry on the AD7843. All analog input signals and any external reference signal should be referred to this GND voltage.", 7 IN3 (in) "Auxiliary Input 1. ADC Input Channel 3.", 8 IN4 (in) "Auxiliary Input 2. ADC Input Channel 4.", 9 VREF (in) "Reference Input for the AD7843. An external reference must be applied to this input. The voltage range for the external reference is 1.0 V to +VCC. For specified performance, it is 2.5 V.", 10 +VCC (power) "Power Supply Input. The +VCC range for the AD7843 is from 2.2 V to 5.25 V. Both +VCC pins should be connected directly together.", 11 ~{PENIRQ} (oc) "Pen Interrupt. CMOS logic open-drain output (requires 10 kohm to 100 kohm pull-up register externally).", 12 DOUT (hiz) "Data Out. Logic Output. The conversion result from the AD7843 is provided on this output as a serial data stream.The bits are clocked out on the falling edge of the DCLK input. This output is high impedance when C\S\ is high.", 13 BUSY (hiz) "BUSY Output. Logic Output. This output is high impedance when C\S\ is high.", 14 DIN (in) "Data In. Logic input. Data to be written to the AD7843 control register is provided on this input and is clocked into the register on the rising edge of DCLK (see the Control Register section).", 15 ~{CS} (in) "Chip Select Input. Active Low Logic Input. This input provides the dual function of initiating conversions on the AD7843 and also enables the serial input/output register.", 16 DCLK (in) "External Clock Input. Logic Input. DCLK provides the serial clock for accessing data from the part. This clock input is also used as the clock source for the AD7843 conversion process."

## AD7843ARQZ-REEL7
designator U?
4 Channel 12-Bit Touch Screen Digitizer with Serial Interface, 125KSPS, 0 to +70 degC, RQ-16, Pb-Free, Reel; Part Number: AD7843; Manufacturer: Analog Devices; Resolution (Bits): 12; Channels: 4; Throughput Rate (SPS): 125K; Interface: Ser; DatasheetVersion: Rev.B; PackageVersion: Aug-2005; PackageReference: RQ-16; PackageDescription: 16-Lead Shrink Small Outline Package [QSOP]; RoHS: Y; Packing: Reel; Mounting Technology: Surface Mount; Code_JEDEC: MO-137-AB; ComponentLink1Description: Manufacturer URL; ComponentLink1URL: http://www.analog.com/en/index.html; ComponentLink2Description: Datasheet; ComponentLink2URL: http://www.analog.com/static/imported-files/data_sheets/AD7843.pdf; ComponentLink3Description: Package Specification; ComponentLink3URL: http://www.analog.com/static/imported-files/packages/5595549651201762937RQ_16.pdf; ComponentLink4Description: Product URL; ComponentLink4URL: http://www.analog.com/en/analog-to-digital-converters/ad-converters/ad7843/products/product.html
footprint RQ-16_N (SOP, 16-Leads, Body 4.9x3.9mm, Pitch 0.635mm, IPC Medium Density)
footprint RQ-16_L (SOP, 16-Leads, Body 4.9x3.9mm, Pitch 0.635mm, IPC High Density)
footprint RQ-16_M (SOP, 16-Leads, Body 4.9x3.9mm, Pitch 0.635mm, IPC Low Density)
pins: 1 +VCC (power) "Power Supply Input. The +VCC range for the AD7843 is from 2.2 V to 5.25 V. Both +VCC pins should be connected directly together.", 2 X+ (in) "X+ Position Input. ADC Input Channel 1.", 3 Y+ (in) "Y+ Position Input. ADC Input Channel 2.", 4 X- (in) "X- Position Input.", 5 Y- (in) "Y- Position Input.", 6 GND (power) "Analog Ground. Ground reference point for all circuitry on the AD7843. All analog input signals and any external reference signal should be referred to this GND voltage.", 7 IN3 (in) "Auxiliary Input 1. ADC Input Channel 3.", 8 IN4 (in) "Auxiliary Input 2. ADC Input Channel 4.", 9 VREF (in) "Reference Input for the AD7843. An external reference must be applied to this input. The voltage range for the external reference is 1.0 V to +VCC. For specified performance, it is 2.5 V.", 10 +VCC (power) "Power Supply Input. The +VCC range for the AD7843 is from 2.2 V to 5.25 V. Both +VCC pins should be connected directly together.", 11 ~{PENIRQ} (oc) "Pen Interrupt. CMOS logic open-drain output (requires 10 kohm to 100 kohm pull-up register externally).", 12 DOUT (hiz) "Data Out. Logic Output. The conversion result from the AD7843 is provided on this output as a serial data stream.The bits are clocked out on the falling edge of the DCLK input. This output is high impedance when C\S\ is high.", 13 BUSY (hiz) "BUSY Output. Logic Output. This output is high impedance when C\S\ is high.", 14 DIN (in) "Data In. Logic input. Data to be written to the AD7843 control register is provided on this input and is clocked into the register on the rising edge of DCLK (see the Control Register section).", 15 ~{CS} (in) "Chip Select Input. Active Low Logic Input. This input provides the dual function of initiating conversions on the AD7843 and also enables the serial input/output register.", 16 DCLK (in) "External Clock Input. Logic Input. DCLK provides the serial clock for accessing data from the part. This clock input is also used as the clock source for the AD7843 conversion process."